# Altium integrated library Switch.IntLib: 16 symbols
Pins are listed as number, name and electrical type; pins without a type are passive.

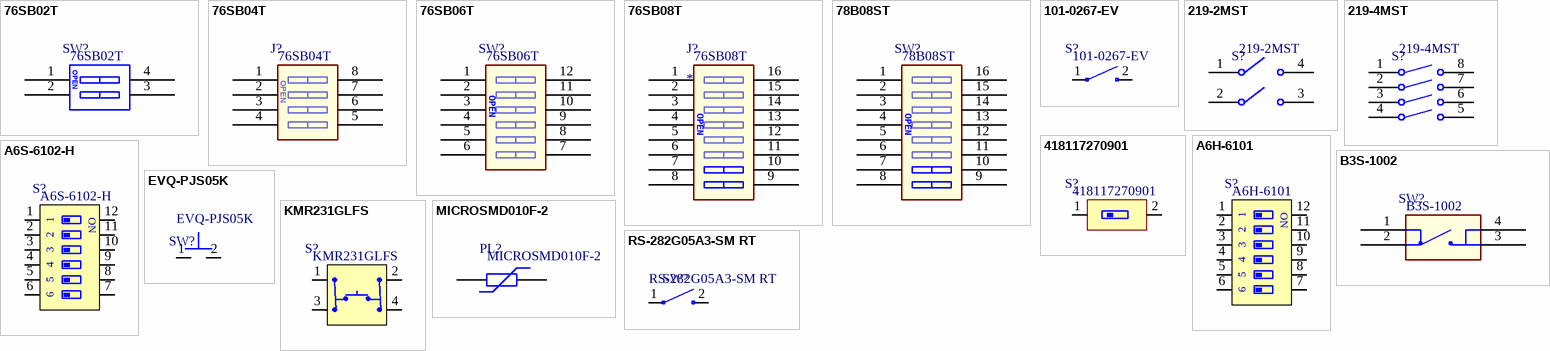
[diagram p0: symbols 76SB02T to RS-282G05A3-SM RT]

## 76SB02T
designator SW?  MPN: 76SB02T  (hidden comment: *)
SWITCH DIP EXT ROCKER 2POS TH; VALUE: 76SB02T; MFT: Grayhill; TYPE: Through-Hole
footprint DIP4
pins: 1 A1, 2 A2, 3 B2, 4 B1
text: OPEN

## 76SB04T
designator J?  MPN: 76SB04T  (hidden comment: *)
SWITCH 4POS DIP EXT ROCK UNSEALD; VALUE: 76SB04T; MFT: Grayhill; TYPE: Through-Hole
footprint DIP8
pins: 1 A1, 2 A2, 3 A3, 4 A4, 5 B4, 6 B3, 7 B2, 8 B1
text: OPEN

## 76SB06T
designator SW?  MPN: 76SB06T  (hidden comment: *)
SWITCH DIP EXT RCKR UNSEALD 6POS; VALUE: 76SB06T; MFT: Grayhill; TYPE: Through-Hole
footprint DIP12
pins: 1 A1, 2 A2, 3 A3, 4 A4, 5 A5, 6 A6, 7 B6, 8 B5, 9 B4, 10 B3, 11 B2, 12 B1
text: OPEN

## 76SB08T
designator J?  MPN: 76SB08T
SWITCH 8POS DIP EXT ROCK UNSEALD; MFT: Grayhill; VALUE: 76SB08T; TYPE: Through-Hole
footprint DIP16
pins: 1 A1, 2 A2, 3 A3, 4 A4, 5 A5, 6 A6, 7 A7, 8 A8, 9 B8, 10 B7, 11 B6, 12 B5, 13 B4, 14 B3, 15 B2, 16 B1
text: OPEN

## 78B08ST
designator SW?  MPN: 78B08ST  (hidden comment: *)
SWITCH SLIDE DIP SPST 150MA 30V; MFT: Grayhill Inc.; VALUE: 78B08ST; LOAD: *; TYPE: TH; RATING: *
footprint 78B08ST
pins: 1 A1, 2 A2, 3 A3, 4 A4, 5 A5, 6 A6, 7 A7, 8 A8, 9 B8, 10 B7, 11 B6, 12 B5, 13 B4, 14 B3, 15 B2, 16 B1
text: OPEN

## 101-0267-EV
designator S?  value 101-0267-EV  (hidden comment: *)
Tactile Switches TACT SWTCH 6.2X6.3MM; MFT: Mountain Switch; TYPE: SMD; RATING: *; MPN: 101-0267-EV; LOAD: *
footprint 101-0267-EV
pins: 1, 2

## 219-2MST
designator S?  MPN: 219-2MST  (hidden comment: *)
SWITCH TAPE SEAL 2 POS SMD 50V; MFT: CTS Electrocomponents; VALUE: 219-2MST; TYPE: Surface Mount
footprint 219-2MST
pins: 1, 2, 3, 4

## 219-4MST
designator S?  MPN: 219-4MST  (hidden comment: *)
DIP Switches / SIP Switches SPST 4 switch sections; MFT: CTS Electronic Components; VALUE: 219-4MST; TYPE: SMD/SMT
footprint 219-4MST
pins: 1, 2, 3, 4, 5, 6, 7, 8

## 418117270901
designator S?  MPN: 418117270901  (hidden comment: *)
SWITCH SLIDE DIP SPST 25MA 24V; MFT: Wurth Electronics Inc.; VALUE: 418117270901; LOAD: *; TYPE: TH; RATING: *
footprint 418117270901
pins: 1, 2

## A6H-6101
designator S?  MPN: A6H-6101  (hidden comment: *)
SWITCH DIP HALF PITCH 6POS 24V; MFT: Omron Electronics Inc-EMC Div; VALUE: A6H-6101; TYPE: Surface Mount
footprint A6H-6101
pins: 1, 2, 3, 4, 5, 6, 7, 8, 9, 10, 11, 12
text: ON

## A6S-6102-H
designator S?  MPN: A6S-6102-H  (hidden comment: *)
SW DIP 6POS TOP ACT GULLEAD 24V; MFT: Omron Electronics Inc-EMC Div; VALUE: A6S-6102-H; TYPE: Surface Mount
footprint A6S-6102-PH
pins: 1, 2, 3, 4, 5, 6, 7, 8, 9, 10, 11, 12
text: ON

## B3S-1002
designator SW?  MPN: B3S-1002  (hidden comment: *)
SWITCH TACT 6MM SMD MOM 230GF; VALUE: B3S-1002; MFT: OMRON; TYPE: Suface Mount
footprint B3S-1002
pins: 1, 2, 3, 4

## EVQ-PJS05K
designator SW?  MPN: EVQ-PJS05K  (hidden comment: *)
SWITCH TACTILE SPST-NO 0.05A 12V; MFT: Panasonic Electronic Components; VALUE: EVQ-PJS05K; TYPE: Surface Mount
footprint EVQ-PJS05K
pins: 1, 2

## KMR231GLFS
designator S?  MPN: KMR231GLFS  (hidden comment: *)
SWITCH TACTILE SPST-NO 0.05A 32V; MFT: C&K Components; VALUE: KMR231GLFS; TYPE: SMD
footprint KMR231G ULC LFS
pins: 1, 2, 3, 4

## MICROSMD010F-2
designator PL?  MPN: MICROSMD010F-2  (hidden comment: *)
POLYSWITCH 0.10A RESET FUSE SMD; MFT: TE Connectivity Raychem Circuit Protection; VALUE: MICROSMD010F-2; TYPE: Surface Mount
footprint MICROSMD010F-2
pins: 1, 2

## RS-282G05A3-SM RT
designator SW?  MPN: RS-282G05A3-SM RT  (hidden comment: *)
SWITCH TACTILE SPST-NO 0.05A 12V; MFT: C&K Components; VALUE: RS-282G05A3-SM RT; TYPE: Surface Mount
footprint RS-282G05A3-SMRT
pins: 1, 2